# EAGLE library part 618009211821 (library 632723100011_Eagle_WR-USB_rev19b)
WR-DSUB 8.08mm Female Angled PCB Connector without Hex Screw 9 Pins=>Code : Con_I-O_DSUB_PCB_Female_wo-screw_618009211821 <https://katalog.we-online.com/media/images/v2/o33076v209%20Family_WR-DSUB_6180xx211821.jpg> Details see: https://katalog.we-online.com/en/em/DSUB_FEMALE_ANGLED_PCB_CONNECTOR_W_O_HEX_SCREW_8_08MM_6180XX211821 Updated by Ella Wu 2019-03-21 2019 (C) Würth Elektronik
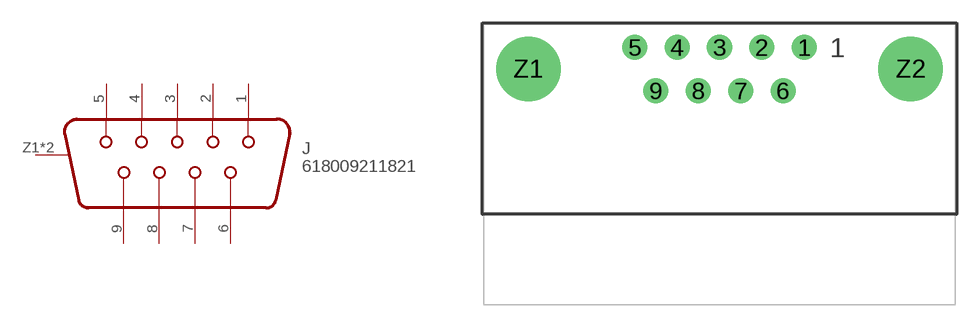
[diagram p40: symbol with the pads of 618009211821; footprint 618009211821]

Designator prefix J

## 618009211821  [618009211821]
1  1
2  2
3  3
4  4
5  5
6  6
7  7
8  8
9  9
Z1  SHIELD
Z2  SHIELD

## Footprint 618009211821 (pad centres in mm)
WR-DSUB 8.08mm Female Angled PCB Connector without Hex Screw, 9 Pins
drill 1.09: 1 5.54,1.42; 2 2.77,1.42; 3 0,1.42; 4 -2.77,1.42; 5 -5.54,1.42; 6 4.155,-1.42; 7 1.385,-1.42; 8 -1.385,-1.42; 9 -4.155,-1.42
drill 3.2: Z1 -12.5,0; Z2 12.5,0